# Altium schematic symbol library rectifier.SCHLIB: 74 symbols
Pins are listed as number, name and electrical type; pins without a type are passive.

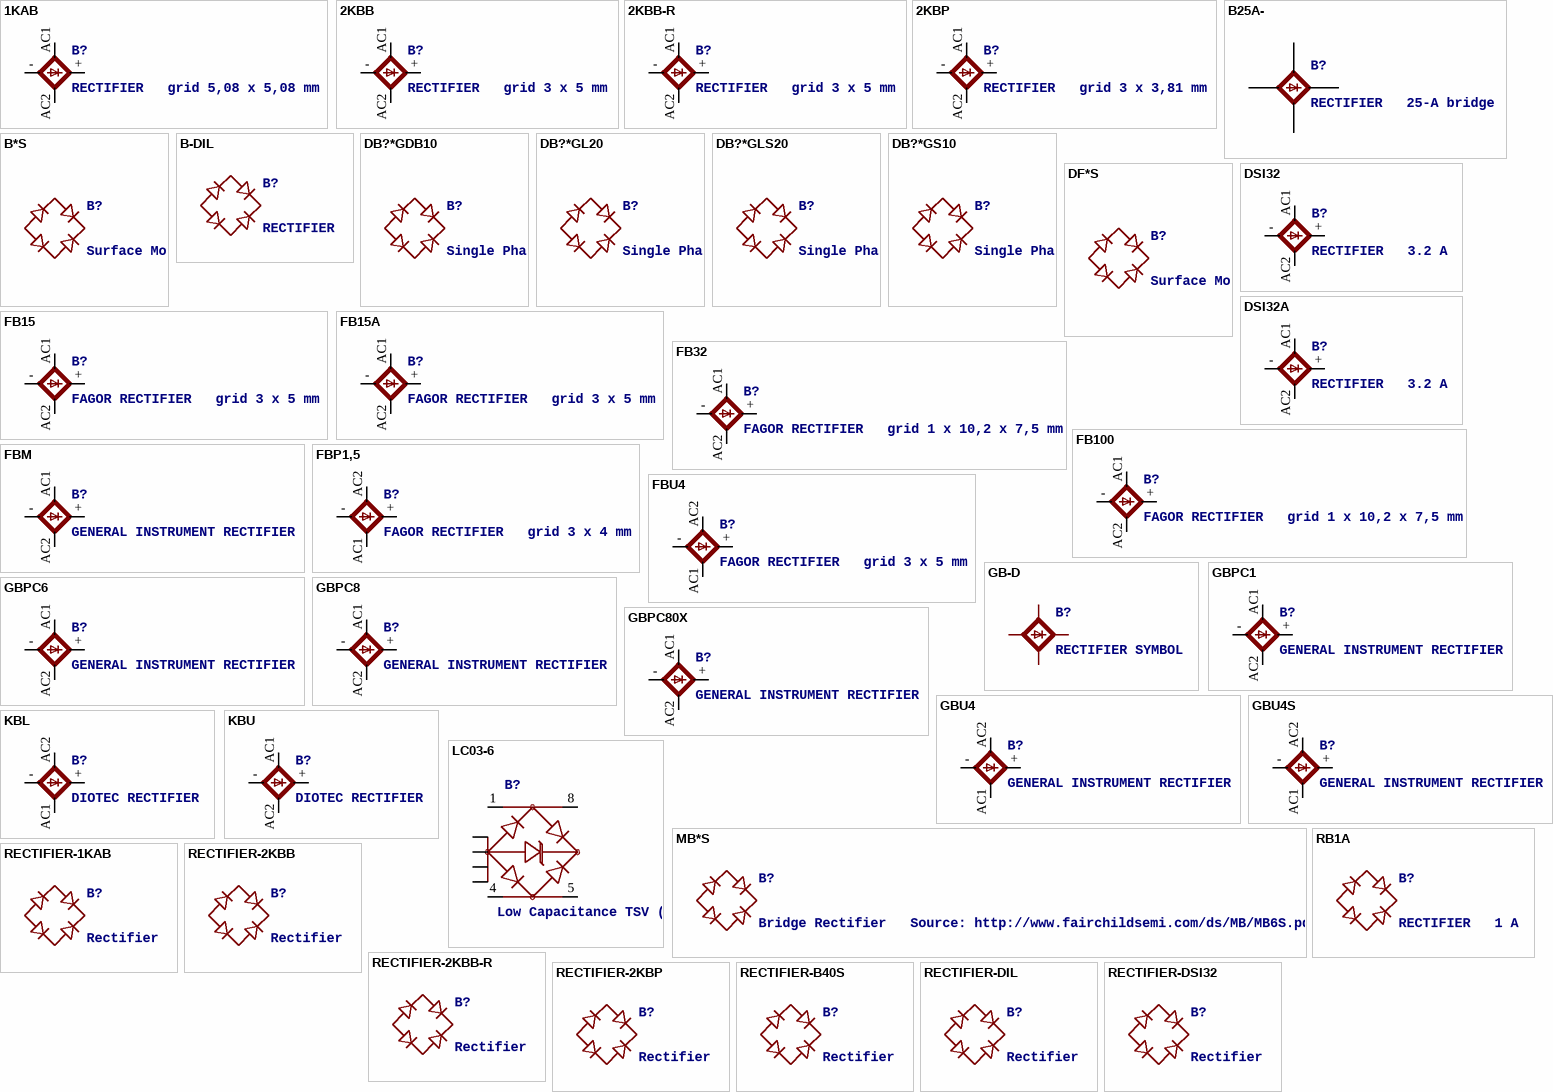
[diagram p0: symbols 1KAB to RECTIFIER-DSI32]

## 1KAB
designator B?, comment RECTIFIER   grid 5,08 x 5,08 mm
footprint 1KAB
pins: +, -, AC1, AC2

## 2KBB
designator B?, comment RECTIFIER   grid 3 x 5 mm
footprint 2KBB
pins: +, -, AC1, AC2

## 2KBB-R
designator B?, comment RECTIFIER   grid 3 x 5 mm
footprint 2KBB-R
pins: +, -, AC1, AC2

## 2KBP
designator B?, comment RECTIFIER   grid 3 x 3,81 mm
footprint 2KBP
pins: +, -, AC1, AC2

## B25A-
designator B?, comment RECTIFIER   25-A bridge
footprint B25A-
pins: +, +1 +@2, -, -1 -@2, AC1, AC1- AC1@2, AC2, AC2- AC2@2

## B*S
designator B?, comment Surface Mount Glass Passivated Bridge Rectifiers   Source: Comchip Bridge Rectifiers B05S-G_B10S-G.pdf
footprint MBS
pins: +, -, AC1, AC2

## B-DIL
designator B?, comment RECTIFIER
footprint B-DIL
pins: +, -, AC1, AC2

## DB?*GDB10
designator B?, comment Single Phase 1.0 AMP Glass Passivated Bridge Rectifier   Taiwan Semiconductor Co.,Ltd. - TSC Source: http://www.taiwansemi.com/TSCbig5/ezcatfiles/cust/img/img/db101g.pdf http://www.ts.com.tw/db/pictures/modules/PDT/PDT060207001/DBLS201G.pdf
footprint DB
pins: +, -, AC1, AC2

## DB?*GL20
designator B?, comment Single Phase 1.0 AMP Glass Passivated Bridge Rectifier   Taiwan Semiconductor Co.,Ltd. - TSC Source: http://www.taiwansemi.com/TSCbig5/ezcatfiles/cust/img/img/db101g.pdf http://www.ts.com.tw/db/pictures/modules/PDT/PDT060207001/DBLS201G.pdf
footprint DB
pins: +, -, AC1, AC2

## DB?*GLS20
designator B?, comment Single Phase 1.0 AMP Glass Passivated Bridge Rectifier   Taiwan Semiconductor Co.,Ltd. - TSC Source: http://www.taiwansemi.com/TSCbig5/ezcatfiles/cust/img/img/db101g.pdf http://www.ts.com.tw/db/pictures/modules/PDT/PDT060207001/DBLS201G.pdf
footprint DBS
pins: +, -, AC1, AC2

## DB?*GS10
designator B?, comment Single Phase 1.0 AMP Glass Passivated Bridge Rectifier   Taiwan Semiconductor Co.,Ltd. - TSC Source: http://www.taiwansemi.com/TSCbig5/ezcatfiles/cust/img/img/db101g.pdf http://www.ts.com.tw/db/pictures/modules/PDT/PDT060207001/DBLS201G.pdf
footprint DBS
pins: +, -, AC1, AC2

## DF*S
designator B?, comment Surface Mount Glass Passivated Bridge Rectifiers   Source: Source: Comchip Bridge Rectifiers DF005S-G thru DF10S-G.pdf
footprint DFS
pins: +, -, AC1, AC2

## DSI32
designator B?, comment RECTIFIER   3.2 A
footprint DSI32
pins: +, -, AC1, AC2

## DSI32A
designator B?, comment RECTIFIER   3.2 A
footprint DSI32A
pins: +, -, AC1, AC2

## FB15
designator B?, comment FAGOR RECTIFIER   grid 3 x 5 mm
footprint FB15
pins: +, -, AC1, AC2

## FB15A
designator B?, comment FAGOR RECTIFIER   grid 3 x 5 mm
footprint FB15A
pins: +, -, AC1, AC2

## FB32
designator B?, comment FAGOR RECTIFIER   grid 1 x 10,2 x 7,5 mm
footprint FB32
pins: +, -, AC1, AC2

## FB100
designator B?, comment FAGOR RECTIFIER   grid 1 x 10,2 x 7,5 mm
footprint FB100
pins: +, -, AC1, AC2

## FBM
designator B?, comment GENERAL INSTRUMENT RECTIFIER
footprint FBM
pins: +, -, AC1, AC2

## FBP1,5
designator B?, comment FAGOR RECTIFIER   grid 3 x 4 mm
footprint FBP1,5
pins: +, -, AC1 AC2, AC2 AC1

## FBU4
designator B?, comment FAGOR RECTIFIER   grid 3 x 5 mm
footprint FBU4
pins: +, -, AC1 AC2, AC2 AC1

## GB-D
designator B?, comment RECTIFIER SYMBOL

## GBPC1
designator B?, comment GENERAL INSTRUMENT RECTIFIER
footprint GBPC1
pins: +, -, AC1, AC2

## GBPC6
designator B?, comment GENERAL INSTRUMENT RECTIFIER
footprint GBPC6
pins: +, -, AC1, AC2

## GBPC8
designator B?, comment GENERAL INSTRUMENT RECTIFIER
footprint GBPC8
pins: +, -, AC1, AC2

## GBPC80X
designator B?, comment GENERAL INSTRUMENT RECTIFIER
footprint GBPC80X
pins: +, -, AC1, AC2

## GBU4
designator B?, comment GENERAL INSTRUMENT RECTIFIER
footprint GBU4S
pins: +, -, AC1 AC2, AC2 AC1

## GBU4S
designator B?, comment GENERAL INSTRUMENT RECTIFIER
footprint GBU4S
pins: +, -, AC1 AC2, AC2 AC1

## KBL
designator B?, comment DIOTEC RECTIFIER
footprint KBL
pins: +, -, AC1 AC2, AC2 AC1

## KBU
designator B?, comment DIOTEC RECTIFIER
footprint KBU
pins: +, -, AC1, AC2

## LC03-6
designator B?, comment Low Capacitance TSV ( Transient Volatce Suppressor) for High-Speed Data IntrerfacesSource: www.semtech.com  .. lc03_6.pdf
footprint SO08
pins: 1 IN~1, 2 GND~@1, 3 GND~@2, 4 IN~2, 5 OUT~2, 6 GND~@3, 7 GND~@4, 8 OUT~1

## MB*S
designator B?, comment Bridge Rectifier   Source: http://www.fairchildsemi.com/ds/MB/MB6S.pdf
footprint SOIC-4
pins: +, -, ~1 AC1, ~2 AC2

## RB1A
designator B?, comment RECTIFIER   1 A
footprint RB1A
pins: +, -, AC1, AC2

## RECTIFIER-1KAB
designator B?, comment Rectifier
footprint 1KAB
pins: +, -, AC1, AC2

## RECTIFIER-2KBB
designator B?, comment Rectifier
footprint 2KBB
pins: +, -, AC1, AC2

## RECTIFIER-2KBB-R
designator B?, comment Rectifier
footprint 2KBB-R
pins: +, -, AC1, AC2

## RECTIFIER-2KBP
designator B?, comment Rectifier
footprint 2KBP
pins: +, -, AC1, AC2

## RECTIFIER-B40S
designator B?, comment Rectifier
footprint B40S
pins: +, -, AC1, AC2

## RECTIFIER-DIL
designator B?, comment Rectifier
footprint B-DIL
pins: +, -, AC1, AC2

## RECTIFIER-DSI32
designator B?, comment Rectifier
footprint DSI32
pins: +, -, AC1, AC2

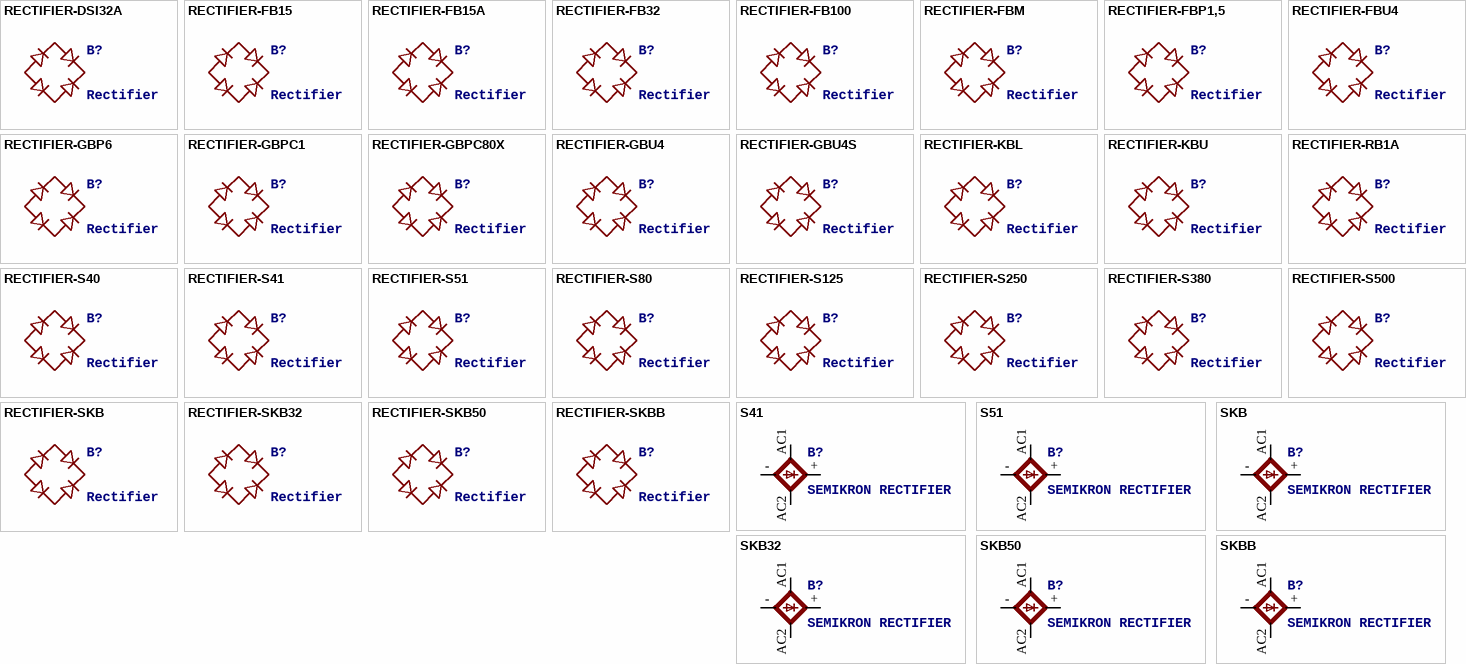
[diagram p1: symbols RECTIFIER-DSI32A to SKBB]

## RECTIFIER-DSI32A
designator B?, comment Rectifier
footprint DSI32A
pins: +, -, AC1, AC2

## RECTIFIER-FB15
designator B?, comment Rectifier
footprint FB15
pins: +, -, AC1, AC2

## RECTIFIER-FB15A
designator B?, comment Rectifier
footprint FB15A
pins: +, -, AC1, AC2

## RECTIFIER-FB32
designator B?, comment Rectifier
footprint FB32
pins: +, -, AC1, AC2

## RECTIFIER-FB100
designator B?, comment Rectifier
footprint FB100
pins: +, -, AC1, AC2

## RECTIFIER-FBM
designator B?, comment Rectifier
footprint FBM
pins: +, -, AC1, AC2

## RECTIFIER-FBP1,5
designator B?, comment Rectifier
footprint FBP1,5
pins: +, -, AC1, AC2

## RECTIFIER-FBU4
designator B?, comment Rectifier
footprint FBU4
pins: +, -, AC1, AC2

## RECTIFIER-GBP6
designator B?, comment Rectifier
footprint GBPC6
pins: +, -, AC1, AC2

## RECTIFIER-GBPC1
designator B?, comment Rectifier
footprint GBPC1
pins: +, -, AC1, AC2

## RECTIFIER-GBPC80X
designator B?, comment Rectifier
footprint GBPC80X
pins: +, -, AC1, AC2

## RECTIFIER-GBU4
designator B?, comment Rectifier
footprint GBU4
pins: +, -, AC1, AC2

## RECTIFIER-GBU4S
designator B?, comment Rectifier
footprint GBU4S
pins: +, -, AC1, AC2

## RECTIFIER-KBL
designator B?, comment Rectifier
footprint KBL
pins: +, -, AC1, AC2

## RECTIFIER-KBU
designator B?, comment Rectifier
footprint KBU
pins: +, -, AC1, AC2

## RECTIFIER-RB1A
designator B?, comment Rectifier
footprint RB1A
pins: +, -, AC1, AC2

## RECTIFIER-S40
designator B?, comment Rectifier
footprint TO-269AA
pins: +, -, AC1, AC2

## RECTIFIER-S41
designator B?, comment Rectifier
footprint S41
pins: +, -, AC1, AC2

## RECTIFIER-S51
designator B?, comment Rectifier
footprint S51
pins: +, -, AC1, AC2

## RECTIFIER-S80
designator B?, comment Rectifier
footprint TO-269AA
pins: +, -, AC1, AC2

## RECTIFIER-S125
designator B?, comment Rectifier
footprint TO-269AA
pins: +, -, AC1, AC2

## RECTIFIER-S250
designator B?, comment Rectifier
footprint TO-269AA
pins: +, -, AC1, AC2

## RECTIFIER-S380
designator B?, comment Rectifier
footprint TO-269AA
pins: +, -, AC1, AC2

## RECTIFIER-S500
designator B?, comment Rectifier
footprint TO-269AA
pins: +, -, AC1, AC2

## RECTIFIER-SKB
designator B?, comment Rectifier
footprint SKB
pins: +, -, AC1, AC2

## RECTIFIER-SKB32
designator B?, comment Rectifier
footprint SKB32
pins: +, -, AC1, AC2

## RECTIFIER-SKB50
designator B?, comment Rectifier
footprint SKB50
pins: +, -, AC1, AC2

## RECTIFIER-SKBB
designator B?, comment Rectifier
footprint SKBB
pins: +, -, AC1, AC2

## S41
designator B?, comment SEMIKRON RECTIFIER
footprint S41
pins: +, -, AC1, AC2

## S51
designator B?, comment SEMIKRON RECTIFIER
footprint S51
pins: +, -, AC1, AC2

## SKB
designator B?, comment SEMIKRON RECTIFIER
footprint SKB
pins: +, -, AC1, AC2

## SKB32
designator B?, comment SEMIKRON RECTIFIER
footprint SKB32
pins: +, -, AC1, AC2

## SKB50
designator B?, comment SEMIKRON RECTIFIER
footprint SKB50
pins: +, -, AC1, AC2

## SKBB
designator B?, comment SEMIKRON RECTIFIER
footprint SKBB
pins: +, -, AC1, AC2